# Altium footprint library Mounting_Wuerth.PcbLib: 191 footprints (part 2 of 12)
Each footprint in its own frame and in the unit in brackets; x right, y up, seen from the top. Pads: shape width x height; smd on the part's side, far side on the other; paste and mask are expansions set on the pad; w line width, h text height; cw(c..) or ccw(c..) is an arc to the next point about the centre after c.
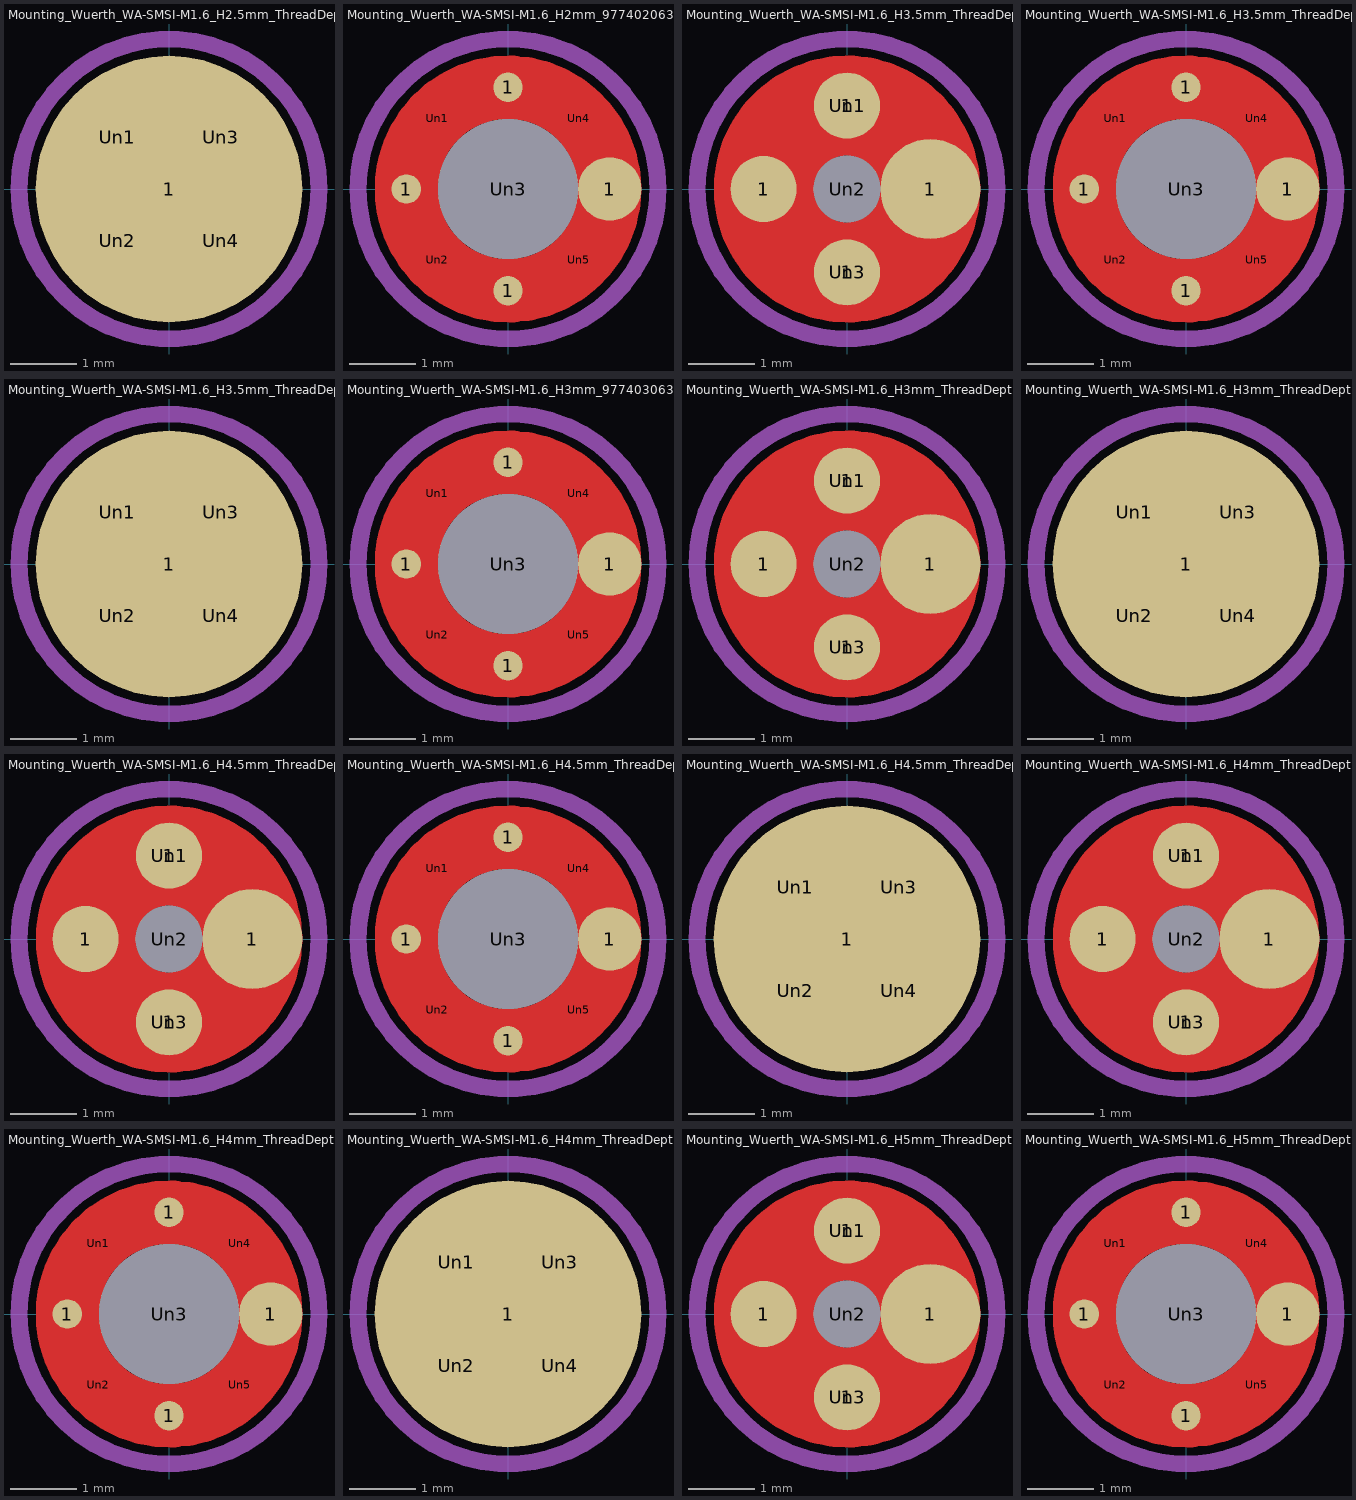
[diagram p1: the footprints below, top view; thin cyan lines are the x and y axes]

## Mounting_Wuerth_WA-SMSI-M1.6_H2.5mm_ThreadDepth1.5mm_NoNPTH_97730256330 [mm]
pads (5):
  round 4 smd: 1(0,0)
  round 0.8 on Top Paste: Un1(-0.778,0.778) Un2(-0.778,-0.778) Un3(0.778,0.778) Un4(0.778,-0.778)
F.Paste:
  lines w0.2: -1.783,-0.25 -0.312,-0.25 ; -1.783,0.25 -0.312,0.25 ; -0.25,-1.783 -0.25,-0.312 ; -0.25,0.312 -0.25,1.783 ; 0.25,-1.783 0.25,-0.312 ; 0.25,0.312 0.25,1.783 ; 0.312,-0.25 1.783,-0.25 ; 0.312,0.25 1.783,0.25
Top Assembly:
  circle w0.254: c0,0 r1.65
  text "'.Designator'" at -3.315,-0.686 h0.82
Top Courtyard:
  circle w0.254: c0,0 r2.25
Top Designator:
  text ".Designator" at -7.738,-0.508 h1.52
3D body "Mounting_Wuerth_WA-SMSI-M1.6_H2.5mm_ThreadDepth1.5mm_NoNPTH_97730256330.step": height 2.5, standoff 0, extent -1.65,-1.647 1.65,1.647

## Mounting_Wuerth_WA-SMSI-M1.6_H2mm_9774020633 [mm]
pads (9):
  round 0.442 smd: 1(-1.525,0) 1(0,-1.525) 1(0,1.525)
  round 0.95 smd: 1(1.525,0)
  round 0.4 on Top Paste: Un1(-1.061,1.061) Un2(-1.061,-1.061) Un4(1.061,1.061) Un5(1.061,-1.061)
  round 2.1 hole 2.1: Un3(0,0)
F.Cu:
  circle w0.95: c0,0 r1.525
F.Paste:
  lines w0.2: -1.775,-0.3 -1.162,-0.3 ; -1.775,0.3 -1.162,0.3 ; -0.3,-1.775 -0.3,-1.162 ; -0.3,1.162 -0.3,1.775 ; 0.3,-1.775 0.3,-1.162 ; 0.3,1.162 0.3,1.775 ; 1.162,-0.3 1.775,-0.3 ; 1.162,0.3 1.775,0.3
F.Mask:
  circle w0.95: c0,0 r1.525
Top Assembly:
  circle w0.254: c0,0 r1.65
  text "'.Designator'" at -3.315,-0.686 h0.82
Top Courtyard:
  circle w0.254: c0,0 r2.25
Top Designator:
  text ".Designator" at -7.738,-0.508 h1.52
3D body "Mounting_Wuerth_WA-SMSI-M1.6_H2mm_9774020633.step": height 2, standoff -0.7, extent -1.65,-1.647 1.65,1.647

## Mounting_Wuerth_WA-SMSI-M1.6_H3.5mm_ThreadDepth2mm_97730356332 [mm]
pads (7):
  round 0.992 smd: 1(-1.25,0) 1(0,-1.25) 1(0,1.25)
  round 1.5 smd: 1(1.25,0)
  round 0.65 on Top Paste: Un1(0,1.25) Un3(0,-1.25)
  round 1 hole 1: Un2(0,0)
F.Cu:
  circle w1.5: c0,0 r1.25
F.Paste:
  lines w0.2: -1.8,0 -0.7,0 ; -1.679,0.65 -0.26,0.65 ; 0.26,-0.65 1.679,-0.65 ; 0.7,0 1.8,0
F.Mask:
  circle w1.5: c0,0 r1.25
Top Assembly:
  circle w0.254: c0,0 r1.65
  text "'.Designator'" at -3.315,-0.686 h0.82
Top Courtyard:
  circle w0.254: c0,0 r2.25
Top Designator:
  text ".Designator" at -7.738,-0.508 h1.52
3D body "Mounting_Wuerth_WA-SMSI-M1.6_H3.5mm_ThreadDepth2mm_97730356332.step": height 3.5, standoff -0.5, extent -1.65,-1.647 1.65,1.647

## Mounting_Wuerth_WA-SMSI-M1.6_H3.5mm_ThreadDepth2mm_97730356334 [mm]
pads (9):
  round 0.442 smd: 1(-1.525,0) 1(0,-1.525) 1(0,1.525)
  round 0.95 smd: 1(1.525,0)
  round 0.4 on Top Paste: Un1(-1.061,1.061) Un2(-1.061,-1.061) Un4(1.061,1.061) Un5(1.061,-1.061)
  round 2.1 hole 2.1: Un3(0,0)
F.Cu:
  circle w0.95: c0,0 r1.525
F.Paste:
  lines w0.2: -1.775,-0.3 -1.162,-0.3 ; -1.775,0.3 -1.162,0.3 ; -0.3,-1.775 -0.3,-1.162 ; -0.3,1.162 -0.3,1.775 ; 0.3,-1.775 0.3,-1.162 ; 0.3,1.162 0.3,1.775 ; 1.162,-0.3 1.775,-0.3 ; 1.162,0.3 1.775,0.3
F.Mask:
  circle w0.95: c0,0 r1.525
Top Assembly:
  circle w0.254: c0,0 r1.65
  text "'.Designator'" at -3.315,-0.686 h0.82
Top Courtyard:
  circle w0.254: c0,0 r2.25
Top Designator:
  text ".Designator" at -7.738,-0.508 h1.52
3D body "Mounting_Wuerth_WA-SMSI-M1.6_H3.5mm_ThreadDepth2mm_97730356334.step": height 3.5, standoff -0.7, extent -1.65,-1.647 1.65,1.647

## Mounting_Wuerth_WA-SMSI-M1.6_H3.5mm_ThreadDepth2mm_NoNPTH_97730356330 [mm]
pads (5):
  round 4 smd: 1(0,0)
  round 0.8 on Top Paste: Un1(-0.778,0.778) Un2(-0.778,-0.778) Un3(0.778,0.778) Un4(0.778,-0.778)
F.Paste:
  lines w0.2: -1.783,-0.25 -0.312,-0.25 ; -1.783,0.25 -0.312,0.25 ; -0.25,-1.783 -0.25,-0.312 ; -0.25,0.312 -0.25,1.783 ; 0.25,-1.783 0.25,-0.312 ; 0.25,0.312 0.25,1.783 ; 0.312,-0.25 1.783,-0.25 ; 0.312,0.25 1.783,0.25
Top Assembly:
  circle w0.254: c0,0 r1.65
  text "'.Designator'" at -3.315,-0.686 h0.82
Top Courtyard:
  circle w0.254: c0,0 r2.25
Top Designator:
  text ".Designator" at -7.738,-0.508 h1.52
3D body "Mounting_Wuerth_WA-SMSI-M1.6_H3.5mm_ThreadDepth2mm_NoNPTH_97730356330.step": height 3.5, standoff 0, extent -1.65,-1.647 1.65,1.647

## Mounting_Wuerth_WA-SMSI-M1.6_H3mm_9774030633 [mm]
pads (9):
  round 0.442 smd: 1(-1.525,0) 1(0,-1.525) 1(0,1.525)
  round 0.95 smd: 1(1.525,0)
  round 0.4 on Top Paste: Un1(-1.061,1.061) Un2(-1.061,-1.061) Un4(1.061,1.061) Un5(1.061,-1.061)
  round 2.1 hole 2.1: Un3(0,0)
F.Cu:
  circle w0.95: c0,0 r1.525
F.Paste:
  lines w0.2: -1.775,-0.3 -1.162,-0.3 ; -1.775,0.3 -1.162,0.3 ; -0.3,-1.775 -0.3,-1.162 ; -0.3,1.162 -0.3,1.775 ; 0.3,-1.775 0.3,-1.162 ; 0.3,1.162 0.3,1.775 ; 1.162,-0.3 1.775,-0.3 ; 1.162,0.3 1.775,0.3
F.Mask:
  circle w0.95: c0,0 r1.525
Top Assembly:
  circle w0.254: c0,0 r1.65
  text "'.Designator'" at -3.315,-0.686 h0.82
Top Courtyard:
  circle w0.254: c0,0 r2.25
Top Designator:
  text ".Designator" at -7.738,-0.508 h1.52
3D body "Mounting_Wuerth_WA-SMSI-M1.6_H3mm_9774030633.step": height 3, standoff -0.7, extent -1.65,-1.647 1.65,1.647

## Mounting_Wuerth_WA-SMSI-M1.6_H3mm_ThreadDepth1.8mm_97730306332 [mm]
pads (7):
  round 0.992 smd: 1(-1.25,0) 1(0,-1.25) 1(0,1.25)
  round 1.5 smd: 1(1.25,0)
  round 0.65 on Top Paste: Un1(0,1.25) Un3(0,-1.25)
  round 1 hole 1: Un2(0,0)
F.Cu:
  circle w1.5: c0,0 r1.25
F.Paste:
  lines w0.2: -1.8,0 -0.7,0 ; -1.679,0.65 -0.26,0.65 ; 0.26,-0.65 1.679,-0.65 ; 0.7,0 1.8,0
F.Mask:
  circle w1.5: c0,0 r1.25
Top Assembly:
  circle w0.254: c0,0 r1.65
  text "'.Designator'" at -3.315,-0.686 h0.82
Top Courtyard:
  circle w0.254: c0,0 r2.25
Top Designator:
  text ".Designator" at -7.738,-0.508 h1.52
3D body "Mounting_Wuerth_WA-SMSI-M1.6_H3mm_ThreadDepth1.8mm_97730306332.step": height 3, standoff -0.5, extent -1.65,-1.647 1.65,1.647

## Mounting_Wuerth_WA-SMSI-M1.6_H3mm_ThreadDepth1.8mm_NoNPTH_97730306330 [mm]
pads (5):
  round 4 smd: 1(0,0)
  round 0.8 on Top Paste: Un1(-0.778,0.778) Un2(-0.778,-0.778) Un3(0.778,0.778) Un4(0.778,-0.778)
F.Paste:
  lines w0.2: -1.783,-0.25 -0.312,-0.25 ; -1.783,0.25 -0.312,0.25 ; -0.25,-1.783 -0.25,-0.312 ; -0.25,0.312 -0.25,1.783 ; 0.25,-1.783 0.25,-0.312 ; 0.25,0.312 0.25,1.783 ; 0.312,-0.25 1.783,-0.25 ; 0.312,0.25 1.783,0.25
Top Assembly:
  circle w0.254: c0,0 r1.65
  text "'.Designator'" at -3.315,-0.686 h0.82
Top Courtyard:
  circle w0.254: c0,0 r2.25
Top Designator:
  text ".Designator" at -7.738,-0.508 h1.52
3D body "Mounting_Wuerth_WA-SMSI-M1.6_H3mm_ThreadDepth1.8mm_NoNPTH_97730306330.step": height 3, standoff 0, extent -1.65,-1.647 1.65,1.647

## Mounting_Wuerth_WA-SMSI-M1.6_H4.5mm_ThreadDepth2mm_97730456332 [mm]
pads (7):
  round 0.992 smd: 1(-1.25,0) 1(0,-1.25) 1(0,1.25)
  round 1.5 smd: 1(1.25,0)
  round 0.65 on Top Paste: Un1(0,1.25) Un3(0,-1.25)
  round 1 hole 1: Un2(0,0)
F.Cu:
  circle w1.5: c0,0 r1.25
F.Paste:
  lines w0.2: -1.8,0 -0.7,0 ; -1.679,0.65 -0.26,0.65 ; 0.26,-0.65 1.679,-0.65 ; 0.7,0 1.8,0
F.Mask:
  circle w1.5: c0,0 r1.25
Top Assembly:
  circle w0.254: c0,0 r1.65
  text "'.Designator'" at -3.315,-0.686 h0.82
Top Courtyard:
  circle w0.254: c0,0 r2.25
Top Designator:
  text ".Designator" at -7.738,-0.508 h1.52
3D body "Mounting_Wuerth_WA-SMSI-M1.6_H4.5mm_ThreadDepth2mm_97730456332.step": height 4.5, standoff -0.5, extent -1.65,-1.647 1.65,1.647

## Mounting_Wuerth_WA-SMSI-M1.6_H4.5mm_ThreadDepth2mm_97730456334 [mm]
pads (9):
  round 0.442 smd: 1(-1.525,0) 1(0,-1.525) 1(0,1.525)
  round 0.95 smd: 1(1.525,0)
  round 0.4 on Top Paste: Un1(-1.061,1.061) Un2(-1.061,-1.061) Un4(1.061,1.061) Un5(1.061,-1.061)
  round 2.1 hole 2.1: Un3(0,0)
F.Cu:
  circle w0.95: c0,0 r1.525
F.Paste:
  lines w0.2: -1.775,-0.3 -1.162,-0.3 ; -1.775,0.3 -1.162,0.3 ; -0.3,-1.775 -0.3,-1.162 ; -0.3,1.162 -0.3,1.775 ; 0.3,-1.775 0.3,-1.162 ; 0.3,1.162 0.3,1.775 ; 1.162,-0.3 1.775,-0.3 ; 1.162,0.3 1.775,0.3
F.Mask:
  circle w0.95: c0,0 r1.525
Top Assembly:
  circle w0.254: c0,0 r1.65
  text "'.Designator'" at -3.315,-0.686 h0.82
Top Courtyard:
  circle w0.254: c0,0 r2.25
Top Designator:
  text ".Designator" at -7.738,-0.508 h1.52
3D body "Mounting_Wuerth_WA-SMSI-M1.6_H4.5mm_ThreadDepth2mm_97730456334.step": height 4.5, standoff -0.7, extent -1.65,-1.647 1.65,1.647

## Mounting_Wuerth_WA-SMSI-M1.6_H4.5mm_ThreadDepth2mm_NoNPTH_97730456330 [mm]
pads (5):
  round 4 smd: 1(0,0)
  round 0.8 on Top Paste: Un1(-0.778,0.778) Un2(-0.778,-0.778) Un3(0.778,0.778) Un4(0.778,-0.778)
F.Paste:
  lines w0.2: -1.783,-0.25 -0.312,-0.25 ; -1.783,0.25 -0.312,0.25 ; -0.25,-1.783 -0.25,-0.312 ; -0.25,0.312 -0.25,1.783 ; 0.25,-1.783 0.25,-0.312 ; 0.25,0.312 0.25,1.783 ; 0.312,-0.25 1.783,-0.25 ; 0.312,0.25 1.783,0.25
Top Assembly:
  circle w0.254: c0,0 r1.65
  text "'.Designator'" at -3.315,-0.686 h0.82
Top Courtyard:
  circle w0.254: c0,0 r2.25
Top Designator:
  text ".Designator" at -7.738,-0.508 h1.52
3D body "Mounting_Wuerth_WA-SMSI-M1.6_H4.5mm_ThreadDepth2mm_NoNPTH_97730456330.step": height 4.5, standoff 0, extent -1.65,-1.647 1.65,1.647

## Mounting_Wuerth_WA-SMSI-M1.6_H4mm_ThreadDepth2mm_97730406332 [mm]
pads (7):
  round 0.992 smd: 1(-1.25,0) 1(0,-1.25) 1(0,1.25)
  round 1.5 smd: 1(1.25,0)
  round 0.65 on Top Paste: Un1(0,1.25) Un3(0,-1.25)
  round 1 hole 1: Un2(0,0)
F.Cu:
  circle w1.5: c0,0 r1.25
F.Paste:
  lines w0.2: -1.8,0 -0.7,0 ; -1.679,0.65 -0.26,0.65 ; 0.26,-0.65 1.679,-0.65 ; 0.7,0 1.8,0
F.Mask:
  circle w1.5: c0,0 r1.25
Top Assembly:
  circle w0.254: c0,0 r1.65
  text "'.Designator'" at -3.315,-0.686 h0.82
Top Courtyard:
  circle w0.254: c0,0 r2.25
Top Designator:
  text ".Designator" at -7.738,-0.508 h1.52
3D body "Mounting_Wuerth_WA-SMSI-M1.6_H4mm_ThreadDepth2mm_97730406332.step": height 4, standoff -0.5, extent -1.65,-1.647 1.65,1.647

## Mounting_Wuerth_WA-SMSI-M1.6_H4mm_ThreadDepth2mm_97730406334 [mm]
pads (9):
  round 0.442 smd: 1(-1.525,0) 1(0,-1.525) 1(0,1.525)
  round 0.95 smd: 1(1.525,0)
  round 0.4 on Top Paste: Un1(-1.061,1.061) Un2(-1.061,-1.061) Un4(1.061,1.061) Un5(1.061,-1.061)
  round 2.1 hole 2.1: Un3(0,0)
F.Cu:
  circle w0.95: c0,0 r1.525
F.Paste:
  lines w0.2: -1.775,-0.3 -1.162,-0.3 ; -1.775,0.3 -1.162,0.3 ; -0.3,-1.775 -0.3,-1.162 ; -0.3,1.162 -0.3,1.775 ; 0.3,-1.775 0.3,-1.162 ; 0.3,1.162 0.3,1.775 ; 1.162,-0.3 1.775,-0.3 ; 1.162,0.3 1.775,0.3
F.Mask:
  circle w0.95: c0,0 r1.525
Top Assembly:
  circle w0.254: c0,0 r1.65
  text "'.Designator'" at -3.315,-0.686 h0.82
Top Courtyard:
  circle w0.254: c0,0 r2.25
Top Designator:
  text ".Designator" at -7.738,-0.508 h1.52
3D body "Mounting_Wuerth_WA-SMSI-M1.6_H4mm_ThreadDepth2mm_97730406334.step": height 4, standoff -0.7, extent -1.65,-1.647 1.65,1.647

## Mounting_Wuerth_WA-SMSI-M1.6_H4mm_ThreadDepth2mm_NoNPTH_97730406330 [mm]
pads (5):
  round 4 smd: 1(0,0)
  round 0.8 on Top Paste: Un1(-0.778,0.778) Un2(-0.778,-0.778) Un3(0.778,0.778) Un4(0.778,-0.778)
F.Paste:
  lines w0.2: -1.783,-0.25 -0.312,-0.25 ; -1.783,0.25 -0.312,0.25 ; -0.25,-1.783 -0.25,-0.312 ; -0.25,0.312 -0.25,1.783 ; 0.25,-1.783 0.25,-0.312 ; 0.25,0.312 0.25,1.783 ; 0.312,-0.25 1.783,-0.25 ; 0.312,0.25 1.783,0.25
Top Assembly:
  circle w0.254: c0,0 r1.65
  text "'.Designator'" at -3.315,-0.686 h0.82
Top Courtyard:
  circle w0.254: c0,0 r2.25
Top Designator:
  text ".Designator" at -7.738,-0.508 h1.52
3D body "Mounting_Wuerth_WA-SMSI-M1.6_H4mm_ThreadDepth2mm_NoNPTH_97730406330.step": height 4, standoff 0, extent -1.65,-1.647 1.65,1.647

## Mounting_Wuerth_WA-SMSI-M1.6_H5mm_ThreadDepth2mm_97730506332 [mm]
pads (7):
  round 0.992 smd: 1(-1.25,0) 1(0,-1.25) 1(0,1.25)
  round 1.5 smd: 1(1.25,0)
  round 0.65 on Top Paste: Un1(0,1.25) Un3(0,-1.25)
  round 1 hole 1: Un2(0,0)
F.Cu:
  circle w1.5: c0,0 r1.25
F.Paste:
  lines w0.2: -1.8,0 -0.7,0 ; -1.679,0.65 -0.26,0.65 ; 0.26,-0.65 1.679,-0.65 ; 0.7,0 1.8,0
F.Mask:
  circle w1.5: c0,0 r1.25
Top Assembly:
  circle w0.254: c0,0 r1.65
  text "'.Designator'" at -3.315,-0.686 h0.82
Top Courtyard:
  circle w0.254: c0,0 r2.25
Top Designator:
  text ".Designator" at -7.738,-0.508 h1.52
3D body "Mounting_Wuerth_WA-SMSI-M1.6_H5mm_ThreadDepth2mm_97730506332.step": height 5, standoff -0.5, extent -1.65,-1.647 1.65,1.647

## Mounting_Wuerth_WA-SMSI-M1.6_H5mm_ThreadDepth2mm_97730506334 [mm]
pads (9):
  round 0.442 smd: 1(-1.525,0) 1(0,-1.525) 1(0,1.525)
  round 0.95 smd: 1(1.525,0)
  round 0.4 on Top Paste: Un1(-1.061,1.061) Un2(-1.061,-1.061) Un4(1.061,1.061) Un5(1.061,-1.061)
  round 2.1 hole 2.1: Un3(0,0)
F.Cu:
  circle w0.95: c0,0 r1.525
F.Paste:
  lines w0.2: -1.775,-0.3 -1.162,-0.3 ; -1.775,0.3 -1.162,0.3 ; -0.3,-1.775 -0.3,-1.162 ; -0.3,1.162 -0.3,1.775 ; 0.3,-1.775 0.3,-1.162 ; 0.3,1.162 0.3,1.775 ; 1.162,-0.3 1.775,-0.3 ; 1.162,0.3 1.775,0.3
F.Mask:
  circle w0.95: c0,0 r1.525
Top Assembly:
  circle w0.254: c0,0 r1.65
  text "'.Designator'" at -3.315,-0.686 h0.82
Top Courtyard:
  circle w0.254: c0,0 r2.25
Top Designator:
  text ".Designator" at -7.738,-0.508 h1.52
3D body "Mounting_Wuerth_WA-SMSI-M1.6_H5mm_ThreadDepth2mm_97730506334.step": height 5, standoff -0.7, extent -1.65,-1.647 1.65,1.647